# Altium integrated library Actel Fusion.IntLib: 336 symbols (part 65 of 72)
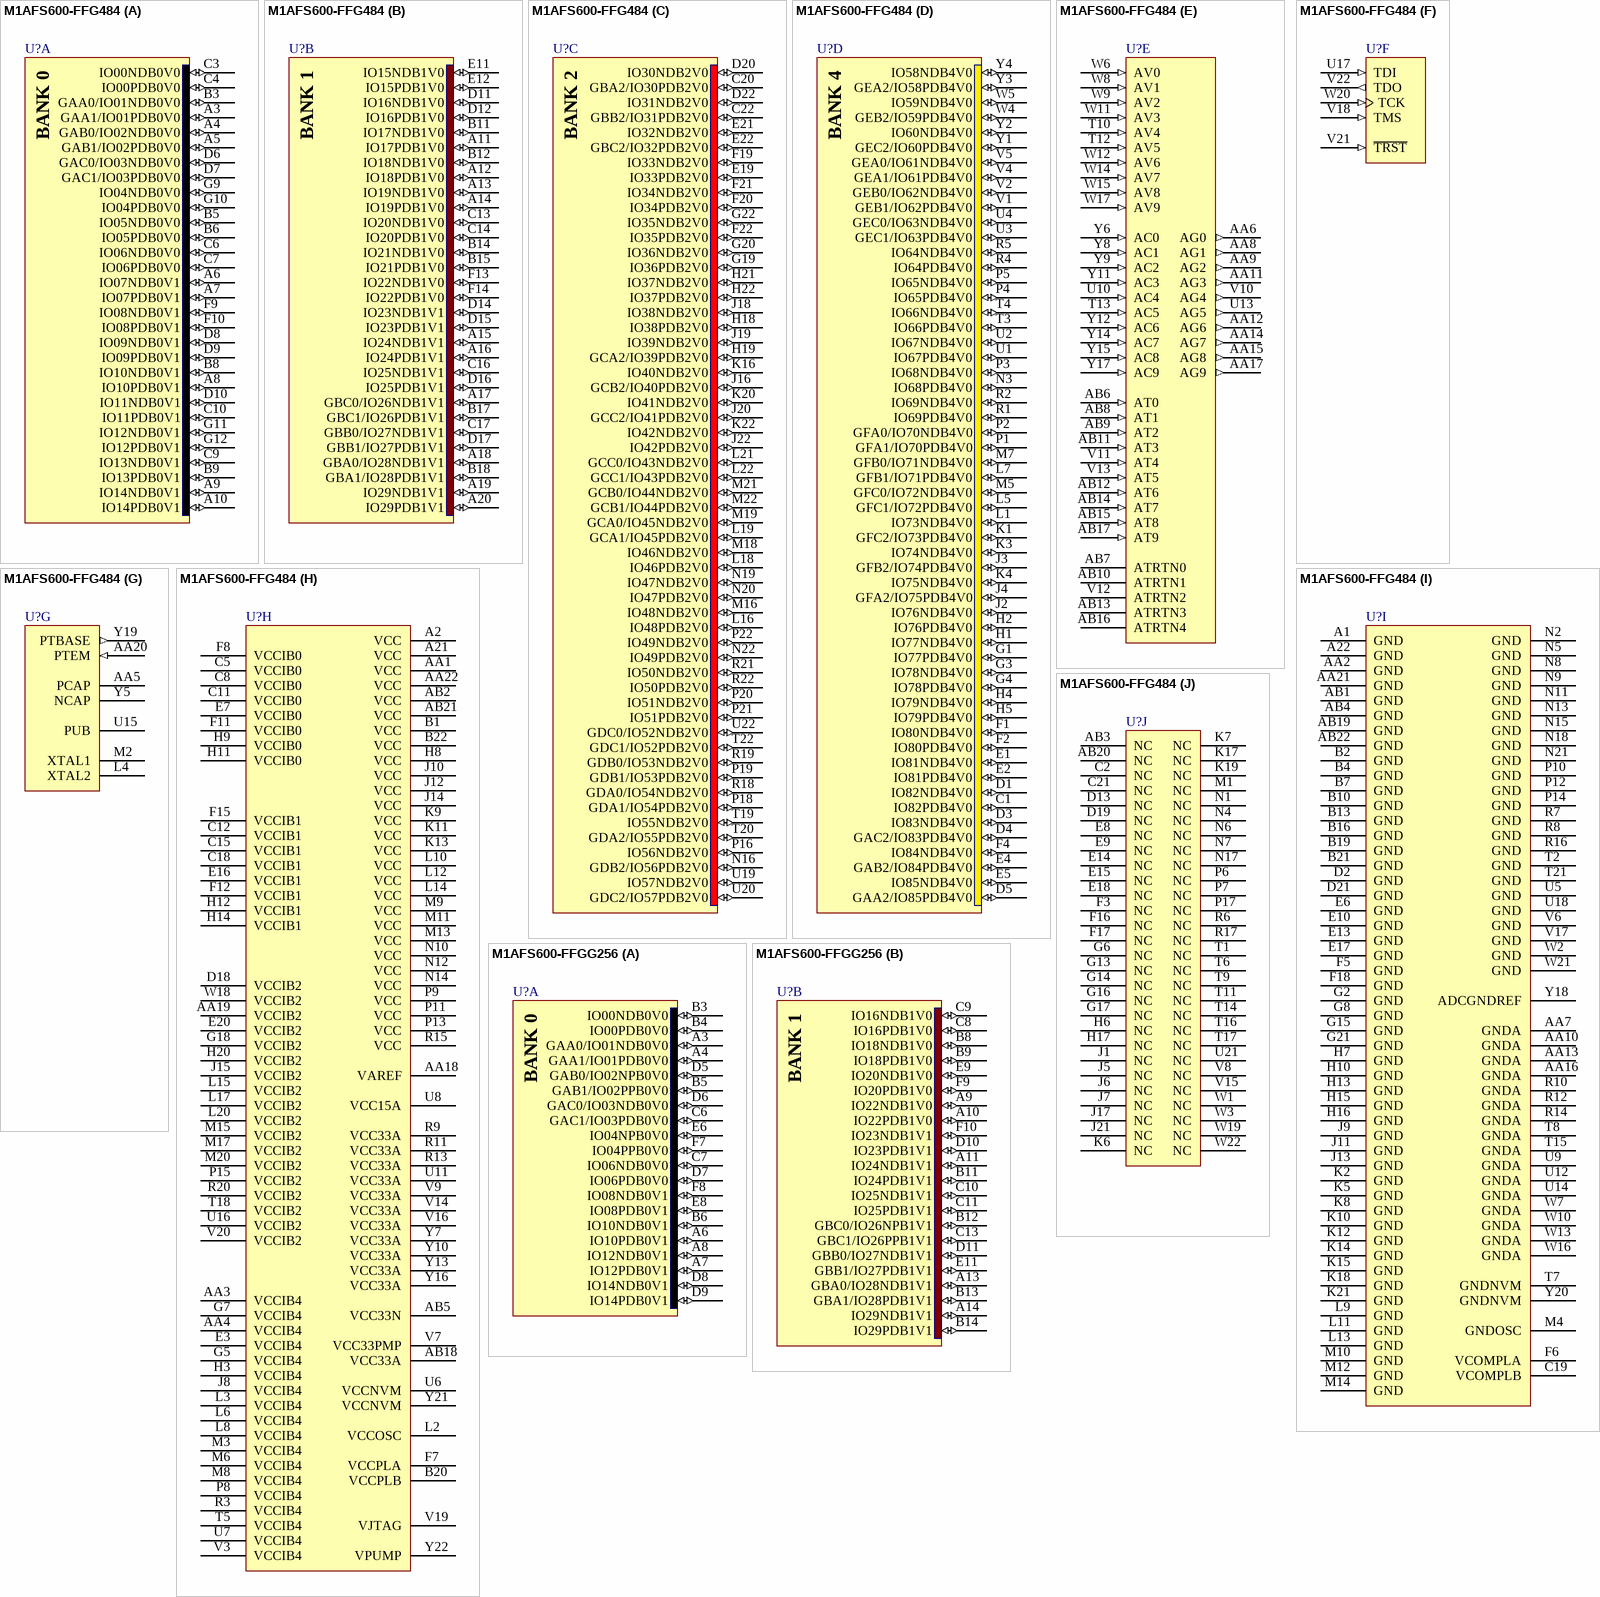
[diagram p332: symbols M1AFS600-FFG484 to M1AFS600-FFGG256]

## M1AFS600-FFG484
designator U?
ARM-Enabled 3.3V Fusion Mixed Signal Flash FPGA, 600,000 System Gates, 484-Pin FBGA, Commercial Grade; Published: 17-Aug-2007; LatestRevisionDate: 14-Dec-2007; LatestRevisionNote: Pin AB18 renamed to "VCC33A".; DatasheetVersion: ver1.7, Oct-2008; PackageVersion: v11.0, Feb-2009; PackageReference: FG484; Publisher: Altium Limited; PackageDescription: 484-Ball Fine Pitch Plastic Ball Grid Array (FG484) - Fully Populated; Code_JEDEC: MS-034-AAJ-1; Code_IPC: BGA100P22X22-484; ComponentLink1Description: Manufacturer Link; ComponentLink1URL: http://www.actel.com/products/fusion/; ComponentLink2Description: Datasheet; ComponentLink2URL: http://www.actel.com/documents/Fusion_DS.pdf; ComponentLink3Description: Packaging Specification; ComponentLink3URL: http://www.actel.com/documents/PckgMechDrwngs.pdf
footprint FG484 (BGA, 484-Leads, Body 23x23mm, Pitch 1mm)
3D model M1AFS600-FG484 (484-Ball Fine Pitch Plastic Ball Grid Array (FG484) - Fully Populated)
signal-integrity model M7AFS600_FG484 (Fusion)
part A pins: A3 GAA1/IO01PDB0V0 (io), A4 GAB0/IO02NDB0V0 (io), A5 GAB1/IO02PDB0V0 (io), A6 IO07NDB0V1 (io), A7 IO07PDB0V1 (io), A8 IO10PDB0V1 (io), A9 IO14NDB0V1 (io), A10 IO14PDB0V1 (io), B3 GAA0/IO01NDB0V0 (io), B5 IO05NDB0V0 (io), B6 IO05PDB0V0 (io), B8 IO10NDB0V1 (io), B9 IO13PDB0V1 (io), C3 IO00NDB0V0 (io), C4 IO00PDB0V0 (io), C6 IO06NDB0V0 (io), C7 IO06PDB0V0 (io), C9 IO13NDB0V1 (io), C10 IO11PDB0V1 (io), D6 GAC0/IO03NDB0V0 (io), D7 GAC1/IO03PDB0V0 (io), D8 IO09NDB0V1 (io), D9 IO09PDB0V1 (io), D10 IO11NDB0V1 (io), F9 IO08NDB0V1 (io), F10 IO08PDB0V1 (io), G9 IO04NDB0V0 (io), G10 IO04PDB0V0 (io), G11 IO12NDB0V1 (io), G12 IO12PDB0V1 (io)
part B pins: A11 IO17PDB1V0 (io), A12 IO18PDB1V0 (io), A13 IO19NDB1V0 (io), A14 IO19PDB1V0 (io), A15 IO24NDB1V1 (io), A16 IO24PDB1V1 (io), A17 GBC0/IO26NDB1V1 (io), A18 GBA0/IO28NDB1V1 (io), A19 IO29NDB1V1 (io), A20 IO29PDB1V1 (io), B11 IO17NDB1V0 (io), B12 IO18NDB1V0 (io), B14 IO21NDB1V0 (io), B15 IO21PDB1V0 (io), B17 GBC1/IO26PDB1V1 (io), B18 GBA1/IO28PDB1V1 (io), C13 IO20NDB1V0 (io), C14 IO20PDB1V0 (io), C16 IO25NDB1V1 (io), C17 GBB0/IO27NDB1V1 (io), D11 IO16NDB1V0 (io), D12 IO16PDB1V0 (io), D14 IO23NDB1V1 (io), D15 IO23PDB1V1 (io), D16 IO25PDB1V1 (io), D17 GBB1/IO27PDB1V1 (io), E11 IO15NDB1V0 (io), E12 IO15PDB1V0 (io), F13 IO22NDB1V0 (io), F14 IO22PDB1V0 (io)
part C pins: C20 GBA2/IO30PDB2V0 (io), C22 GBB2/IO31PDB2V0 (io), D20 IO30NDB2V0 (io), D22 IO31NDB2V0 (io), E19 IO33PDB2V0 (io), E21 IO32NDB2V0 (io), E22 GBC2/IO32PDB2V0 (io), F19 IO33NDB2V0 (io), F20 IO34PDB2V0 (io), F21 IO34NDB2V0 (io), F22 IO35PDB2V0 (io), G19 IO36PDB2V0 (io), G20 IO36NDB2V0 (io), G22 IO35NDB2V0 (io), H18 IO38PDB2V0 (io), H19 GCA2/IO39PDB2V0 (io), H21 IO37NDB2V0 (io), H22 IO37PDB2V0 (io), J16 GCB2/IO40PDB2V0 (io), J18 IO38NDB2V0 (io), J19 IO39NDB2V0 (io), J20 GCC2/IO41PDB2V0 (io), J22 IO42PDB2V0 (io), K16 IO40NDB2V0 (io), K20 IO41NDB2V0 (io), K22 IO42NDB2V0 (io), L16 IO48PDB2V0 (io), L18 IO46PDB2V0 (io), L19 GCA1/IO45PDB2V0 (io), L21 GCC0/IO43NDB2V0 (io), L22 GCC1/IO43PDB2V0 (io), M16 IO48NDB2V0 (io), M18 IO46NDB2V0 (io), M19 GCA0/IO45NDB2V0 (io), M21 GCB0/IO44NDB2V0 (io), M22 GCB1/IO44PDB2V0 (io), N16 GDB2/IO56PDB2V0 (io), N19 IO47NDB2V0 (io), N20 IO47PDB2V0 (io), N22 IO49PDB2V0 (io), P16 IO56NDB2V0 (io), P18 GDA1/IO54PDB2V0 (io), P19 GDB1/IO53PDB2V0 (io), P20 IO51NDB2V0 (io), P21 IO51PDB2V0 (io), P22 IO49NDB2V0 (io), R18 GDA0/IO54NDB2V0 (io), R19 GDB0/IO53NDB2V0 (io), R21 IO50NDB2V0 (io), R22 IO50PDB2V0 (io), T19 IO55NDB2V0 (io), T20 GDA2/IO55PDB2V0 (io), T22 GDC1/IO52PDB2V0 (io), U19 IO57NDB2V0 (io), U20 GDC2/IO57PDB2V0 (io), U22 GDC0/IO52NDB2V0 (io)
part D pins: C1 IO82PDB4V0 (io), D1 IO82NDB4V0 (io), D3 IO83NDB4V0 (io), D4 GAC2/IO83PDB4V0 (io), D5 GAA2/IO85PDB4V0 (io), E1 IO81NDB4V0 (io), E2 IO81PDB4V0 (io), E4 GAB2/IO84PDB4V0 (io), E5 IO85NDB4V0 (io), F1 IO80NDB4V0 (io), F2 IO80PDB4V0 (io), F4 IO84NDB4V0 (io), G1 IO77PDB4V0 (io), G3 IO78NDB4V0 (io), G4 IO78PDB4V0 (io), H1 IO77NDB4V0 (io), H2 IO76PDB4V0 (io), H4 IO79NDB4V0 (io), H5 IO79PDB4V0 (io), J2 IO76NDB4V0 (io), J3 GFB2/IO74PDB4V0 (io), J4 GFA2/IO75PDB4V0 (io), K1 GFC2/IO73PDB4V0 (io), K3 IO74NDB4V0 (io), K4 IO75NDB4V0 (io), L1 IO73NDB4V0 (io), L5 GFC1/IO72PDB4V0 (io), L7 GFB1/IO71PDB4V0 (io), M5 GFC0/IO72NDB4V0 (io), M7 GFB0/IO71NDB4V0 (io), N3 IO68PDB4V0 (io), P1 GFA1/IO70PDB4V0 (io), P2 GFA0/IO70NDB4V0 (io), P3 IO68NDB4V0 (io), P4 IO65PDB4V0 (io), P5 IO65NDB4V0 (io), R1 IO69PDB4V0 (io), R2 IO69NDB4V0 (io), R4 IO64PDB4V0 (io), R5 IO64NDB4V0 (io), T3 IO66PDB4V0 (io), T4 IO66NDB4V0 (io), U1 IO67PDB4V0 (io), U2 IO67NDB4V0 (io), U3 GEC1/IO63PDB4V0 (io), U4 GEC0/IO63NDB4V0 (io), V1 GEB1/IO62PDB4V0 (io), V2 GEB0/IO62NDB4V0 (io), V4 GEA1/IO61PDB4V0 (io), V5 GEA0/IO61NDB4V0 (io), W4 GEB2/IO59PDB4V0 (io), W5 IO59NDB4V0 (io), Y1 GEC2/IO60PDB4V0 (io), Y2 IO60NDB4V0 (io), Y3 GEA2/IO58PDB4V0 (io), Y4 IO58NDB4V0 (io)
part E pins: AA6 AG0 (out) "Analog gate driver pad 0.", AA8 AG1 (out) "Analog gate driver pad 1.", AA9 AG2 (out) "Analog gate driver pad 2.", AA11 AG3 (out) "Analog gate driver pad 3.", AA12 AG6 (out) "Analog gate driver pad 6.", AA14 AG7 (out) "Analog gate driver pad 7.", AA15 AG8 (out) "Analog gate driver pad 8.", AA17 AG9 (out) "Analog gate driver pad 9.", AB6 AT0 (in) "Analog temperature pad 0.", AB7 ATRTN0 "Temperature monitor return 0.", AB8 AT1 (in) "Analog temperature pad 1.", AB9 AT2 (in) "Analog temperature pad 2.", AB10 ATRTN1 "Temperature monitor return 1.", AB11 AT3 (in) "Analog temperature pad 3.", AB12 AT6 (in) "Analog temperature pad 6.", AB13 ATRTN3 "Temperature monitor return 3.", AB14 AT7 (in) "Analog temperature pad 7.", AB15 AT8 (in) "Analog temperature pad 8.", AB16 ATRTN4 "Temperature monitor return 4.", AB17 AT9 (in) "Analog temperature pad 9.", T10 AV4 (in) "Analog voltage pad 4.", T12 AV5 (in) "Analog voltage pad 5.", T13 AC5 (in) "Analog current pad 5.", U10 AC4 (in) "Analog current pad 4.", U13 AG5 (out) "Analog gate driver pad 5.", V10 AG4 (out) "Analog gate driver pad 4.", V11 AT4 (in) "Analog temperature pad 4.", V12 ATRTN2 "Temperature monitor return 2.", V13 AT5 (in) "Analog temperature pad 5.", W6 AV0 (in) "Analog voltage pad 0.", W8 AV1 (in) "Analog voltage pad 1.", W9 AV2 (in) "Analog voltage pad 2.", W11 AV3 (in) "Analog voltage pad 3.", W12 AV6 (in) "Analog voltage pad 6.", W14 AV7 (in) "Analog voltage pad 7.", W15 AV8 (in) "Analog voltage pad 8.", W17 AV9 (in) "Analog voltage pad 9.", Y6 AC0 (in) "Analog current pad 0.", Y8 AC1 (in) "Analog current pad 1.", Y9 AC2 (in) "Analog current pad 2.", Y11 AC3 (in) "Analog current pad 3.", Y12 AC6 (in) "Analog current pad 6.", Y14 AC7 (in) "Analog current pad 7.", Y15 AC8 (in) "Analog current pad 8.", Y17 AC9 (in) "Analog current pad 9."
part F pins: U17 TDI (in), V18 TMS (in), V21 ~{TRST} (in), V22 TDO (out), W20 TCK (in)
part G pins: AA5 PCAP "POSITIVE CAPACITOR - where the positive terminal of the charge pump capacitor is connected.", AA20 PTEM (in) "PASS TRANSISTOR EMITTER - The feedback input of the voltage regulator.", L4 XTAL2 "Input to crystal oscillator - If using external RC network or clock input, XTAL1 should be used and XTAL2 left unconnected.", M2 XTAL1 "Input to crystal oscillator - If using external RC network or clock input, XTAL1 should be used and XTAL2 left unconnected.", U15 PUB "Power up bar - for the external momentary switch which turns on the 1.5V regulator.", Y5 NCAP "NEGATIVE CAPACITOR - where the negative terminal of the charge pump capacitor is connected.", Y19 PTBASE (out) "PASS TRANSISTOR BASE - The control signal of the voltage regulator."
part H pins: A2 VCC (power), A21 VCC (power), AA1 VCC (power), AA3 VCCIB4 (power) "Quiet supply voltage to the input buffers of bank 4.", AA4 VCCIB4 (power), AA18 VAREF (power) "Analog reference voltage to be used by analog to digital converter.", AA19 VCCIB2 (power), AA22 VCC (power), AB2 VCC (power), AB5 VCC33N (power) "-3.3V output from the voltage converter. A 2.2µF capacitor must be connected from this pin to ground.", AB18 VCC33A (power) "Analog power pin for the analog power supply low pass filter. An external 1µF capacitor should be connected between this pin and ground.", AB21 VCC (power), B1 VCC (power), B20 VCCPLB (power), B22 VCC (power), C5 VCCIB0 (power), C8 VCCIB0 (power), C11 VCCIB0 (power), C12 VCCIB1 (power), C15 VCCIB1 (power), C18 VCCIB1 (power), D18 VCCIB2 (power) "Quiet supply voltage to the input buffers of bank 2.", E3 VCCIB4 (power), E7 VCCIB0 (power), E16 VCCIB1 (power), E20 VCCIB2 (power), F7 VCCPLA (power), F8 VCCIB0 (power) "Quiet supply voltage to the input buffers of bank 0.", F11 VCCIB0 (power), F12 VCCIB1 (power), F15 VCCIB1 (power) "Quiet supply voltage to the input buffers of bank 1.", G5 VCCIB4 (power), G7 VCCIB4 (power) "Quiet supply voltage to the input buffers of bank 4.", G18 VCCIB2 (power), H3 VCCIB4 (power), H8 VCC (power), H9 VCCIB0 (power), H11 VCCIB0 (power), H12 VCCIB1 (power), H14 VCCIB1 (power), H20 VCCIB2 (power), J8 VCCIB4 (power), J10 VCC (power), J12 VCC (power), J14 VCC (power), J15 VCCIB2 (power), K9 VCC (power), K11 VCC (power), K13 VCC (power), L2 VCCOSC (power), L3 VCCIB4 (power), L6 VCCIB4 (power), L8 VCCIB4 (power), L10 VCC (power), L12 VCC (power), L14 VCC (power), L15 VCCIB2 (power), L17 VCCIB2 (power), L20 VCCIB2 (power), M3 VCCIB4 (power), M6 VCCIB4 (power), M8 VCCIB4 (power), M9 VCC (power), M11 VCC (power), M13 VCC (power), M15 VCCIB2 (power), M17 VCCIB2 (power), M20 VCCIB2 (power), N10 VCC (power), N12 VCC (power), N14 VCC (power), P8 VCCIB4 (power), P9 VCC (power), P11 VCC (power), P13 VCC (power), P15 VCCIB2 (power), R3 VCCIB4 (power), R9 VCC33A (power), R11 VCC33A (power), R13 VCC33A (power), R15 VCC (power), R20 VCCIB2 (power), T5 VCCIB4 (power), T18 VCCIB2 (power), U6 VCCNVM (power) "1.5V power supply used by the Fusion device's Flash memory block module(s).", U7 VCCIB4 (power), U8 VCC15A (power), U11 VCC33A (power), U16 VCCIB2 (power), V3 VCCIB4 (power), V7 VCC33PMP (power) "3.3V clean analog power supply input for use by the analog charge pump.", V9 VCC33A (power), V14 VCC33A (power), V16 VCC33A (power), V19 VJTAG (power), V20 VCCIB2 (power), W18 VCCIB2 (power) "Quiet supply voltage to the input buffers of bank 2.", Y7 VCC33A (power), Y10 VCC33A (power), Y13 VCC33A (power), Y16 VCC33A (power), Y21 VCCNVM (power) "1.5V power supply used by the Fusion device's Flash memory block module(s).", Y22 VPUMP (power)
part I pins: A1 GND (power), A22 GND (power), AA2 GND (power), AA7 GNDA (power), AA10 GNDA (power), AA13 GNDA (power), AA16 GNDA (power), AA21 GND (power), AB1 GND (power), AB4 GND (power), AB19 GND (power), AB22 GND (power), B2 GND (power), B4 GND (power), B7 GND (power), B10 GND (power), B13 GND (power), B16 GND (power), B19 GND (power), B21 GND (power), C19 VCOMPLB (power), D2 GND (power), D21 GND (power), E6 GND (power), E10 GND (power), E13 GND (power), E17 GND (power), F5 GND (power), F6 VCOMPLA (power), F18 GND (power), G2 GND (power), G8 GND (power), G15 GND (power), G21 GND (power), H7 GND (power), H10 GND (power), H13 GND (power), H15 GND (power), H16 GND (power), J9 GND (power), J11 GND (power), J13 GND (power), K2 GND (power), K5 GND (power), K8 GND (power), K10 GND (power), K12 GND (power), K14 GND (power), K15 GND (power), K18 GND (power), K21 GND (power), L9 GND (power), L11 GND (power), L13 GND (power), M4 GNDOSC (power) "Oscillator ground.", M10 GND (power), M12 GND (power), M14 GND (power), N2 GND (power), N5 GND (power), N8 GND (power), N9 GND (power), N11 GND (power), N13 GND (power), N15 GND (power), N18 GND (power), N21 GND (power), P10 GND (power), P12 GND (power), P14 GND (power), R7 GND (power), R8 GND (power), R10 GNDA (power), R12 GNDA (power), R14 GNDA (power), R16 GND (power), T2 GND (power), T7 GNDNVM (power) "Flash memory ground.", T8 GNDA (power), T15 GNDA (power), T21 GND (power), U5 GND (power), U9 GNDA (power), U12 GNDA (power), U14 GNDA (power), U18 GND (power), V6 GND (power), V17 GND (power), W2 GND (power), W7 GNDA (power), W10 GNDA (power), W13 GNDA (power), W16 GNDA (power), W21 GND (power), Y18 ADCGNDREF (power) "Analog ground reference used by the ADC.", Y20 GNDNVM (power) "Flash memory ground."
part J pins: AB3 NC, AB20 NC, C2 NC, C21 NC, D13 NC, D19 NC, E8 NC, E9 NC, E14 NC, E15 NC, E18 NC, F3 NC, F16 NC, F17 NC, G6 NC, G13 NC, G14 NC, G16 NC, G17 NC, H6 NC, H17 NC, J1 NC, J5 NC, J6 NC, J7 NC, J17 NC, J21 NC, K6 NC, K7 NC, K17 NC, K19 NC, M1 NC, N1 NC, N4 NC, N6 NC, N7 NC, N17 NC, P6 NC, P7 NC, P17 NC, R6 NC, R17 NC, T1 NC, T6 NC, T9 NC, T11 NC, T14 NC, T16 NC, T17 NC, U21 NC, V8 NC, V15 NC, W1 NC, W3 NC, W19 NC, W22 NC
part A text: BANK 0
part B text: BANK 1
part C text: BANK 2
part D text: BANK 4

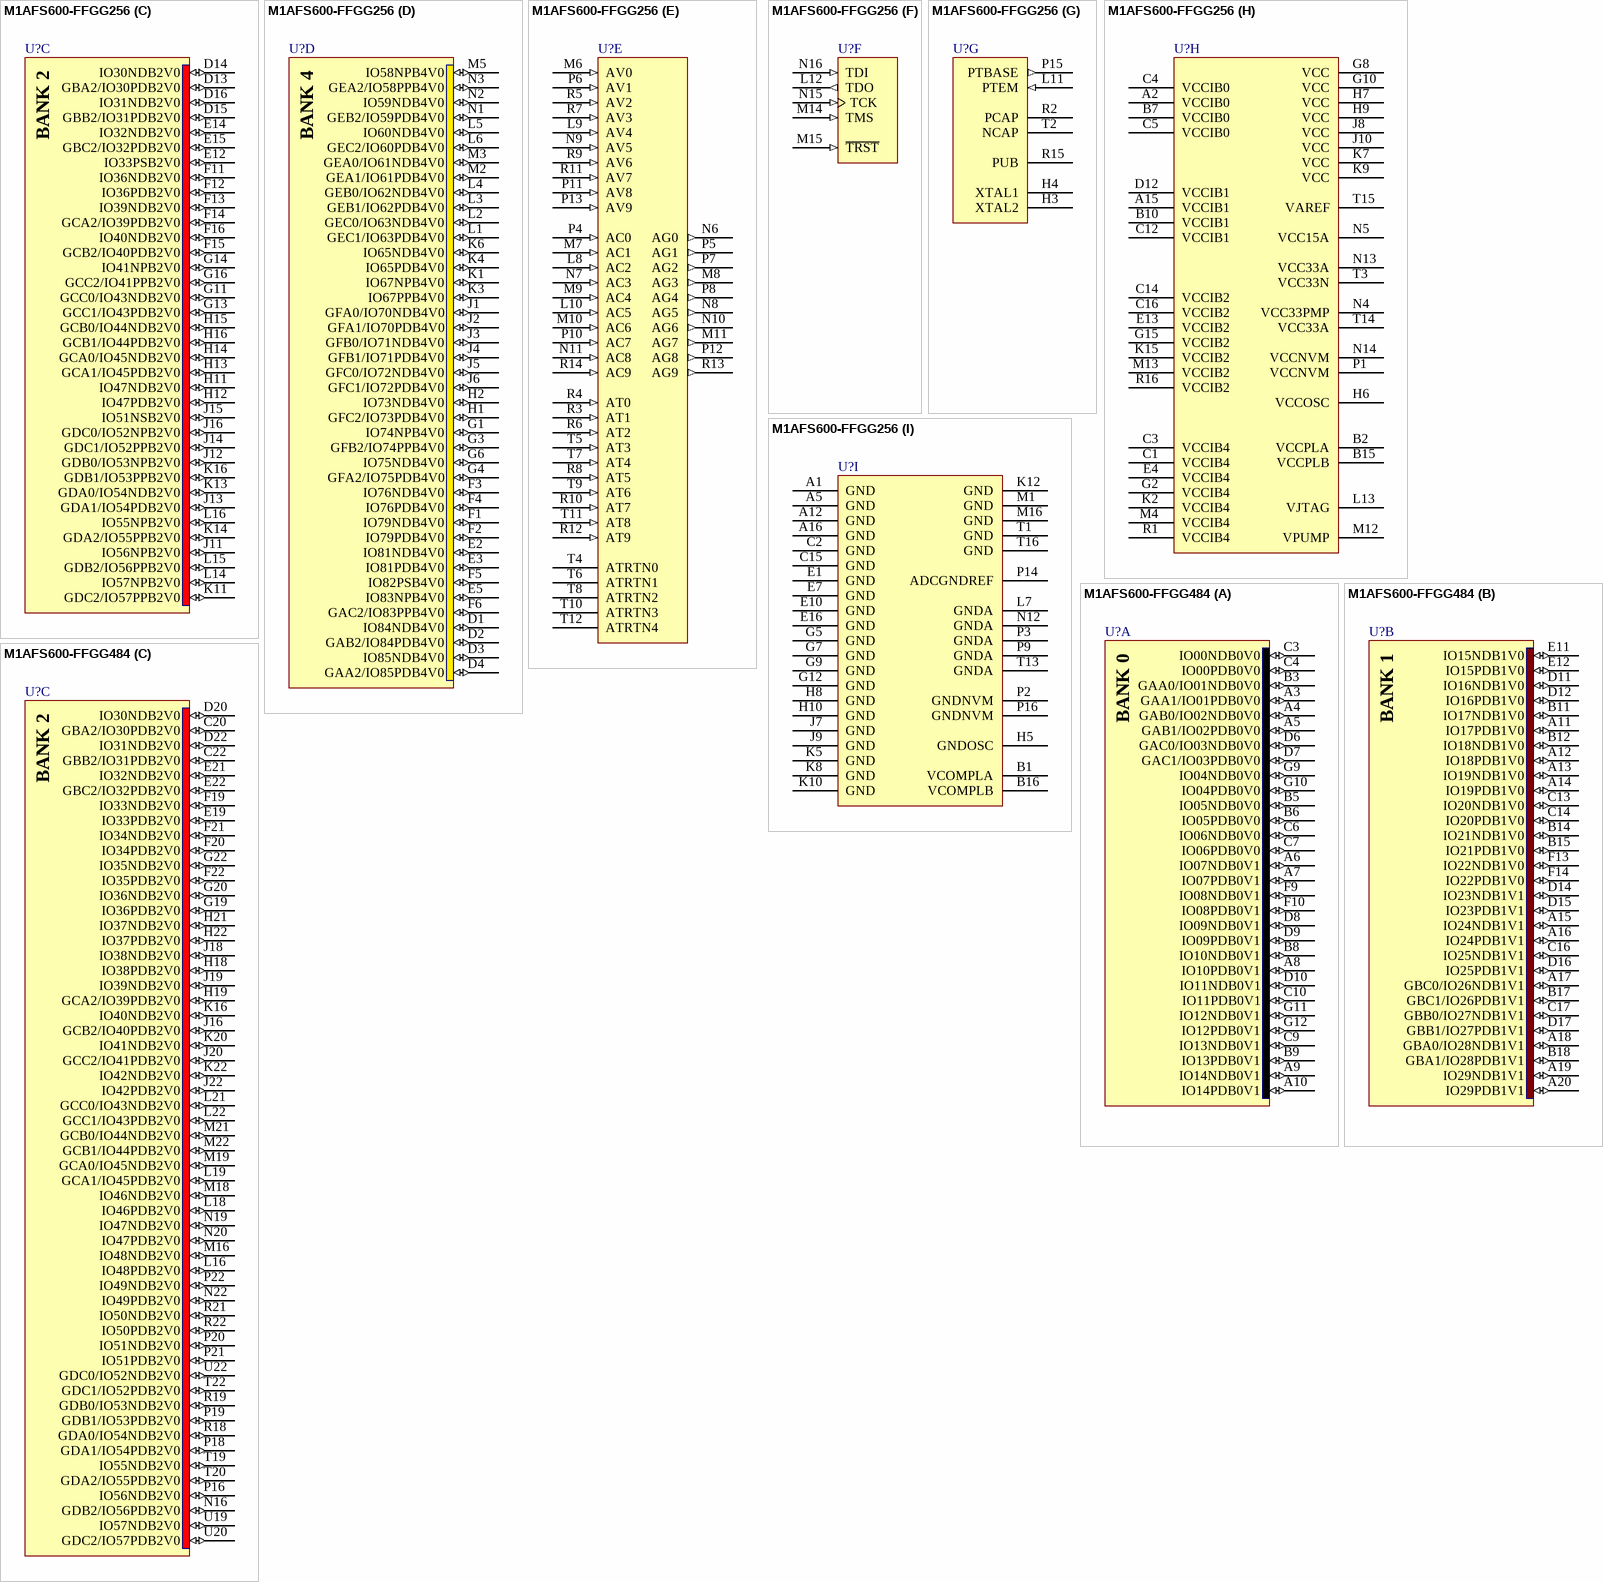
[diagram p193: symbols M1AFS600-FFGG256 to M1AFS600-FFGG484]

## M1AFS600-FFGG256
designator U?
ARM-Enabled 3.3V Fusion Mixed Signal Flash FPGA, 600,000 System Gates, 256-Pin FBGA, Commercial Grade, Pb-Free; Published: 17-Aug-2007; LatestRevisionDate: 14-Dec-2007; LatestRevisionNote: Pin T14 renamed to "VCC33A".; DatasheetVersion: ver1.7, Oct-2008; PackageVersion: v11.0, Feb-2009; PackageReference: FG256; Publisher: Altium Limited; PackageDescription: 256-Ball Fine Pitch Plastic Ball Grid Array (FG256); Code_JEDEC: MO-192-DAF-1; ComponentLink1Description: Manufacturer Link; ComponentLink1URL: http://www.actel.com/products/fusion/; ComponentLink2Description: Datasheet; ComponentLink2URL: http://www.actel.com/documents/Fusion_DS.pdf; ComponentLink3Description: Packaging Specification; ComponentLink3URL: http://www.actel.com/documents/PckgMechDrwngs.pdf
footprint FG256 (BGA, 256-Leads, Body 17x17mm, Pitch 1mm)
3D model M1AFS600-FG256 (256-Ball Fine Pitch Plastic Ball Grid Array (FG256))
signal-integrity model M7AFS600_FG256 (Fusion)
part A pins: A3 GAA0/IO01NDB0V0 (io), A4 GAA1/IO01PDB0V0 (io), A6 IO10PDB0V1 (io), A7 IO12PDB0V1 (io), A8 IO12NDB0V1 (io), B3 IO00NDB0V0 (io), B4 IO00PDB0V0 (io), B5 GAB1/IO02PPB0V0 (io), B6 IO10NDB0V1 (io), C6 GAC1/IO03PDB0V0 (io), C7 IO06NDB0V0 (io), D5 GAB0/IO02NPB0V0 (io), D6 GAC0/IO03NDB0V0 (io), D7 IO06PDB0V0 (io), D8 IO14NDB0V1 (io), D9 IO14PDB0V1 (io), E6 IO04NPB0V0 (io), E8 IO08PDB0V1 (io), F7 IO04PPB0V0 (io), F8 IO08NDB0V1 (io)
part B pins: A9 IO22NDB1V0 (io), A10 IO22PDB1V0 (io), A11 IO24NDB1V1 (io), A13 GBA0/IO28NDB1V1 (io), A14 IO29NDB1V1 (io), B8 IO18NDB1V0 (io), B9 IO18PDB1V0 (io), B11 IO24PDB1V1 (io), B12 GBC0/IO26NPB1V1 (io), B13 GBA1/IO28PDB1V1 (io), B14 IO29PDB1V1 (io), C8 IO16PDB1V0 (io), C9 IO16NDB1V0 (io), C10 IO25NDB1V1 (io), C11 IO25PDB1V1 (io), C13 GBC1/IO26PPB1V1 (io), D10 IO23PDB1V1 (io), D11 GBB0/IO27NDB1V1 (io), E9 IO20NDB1V0 (io), E11 GBB1/IO27PDB1V1 (io), F9 IO20PDB1V0 (io), F10 IO23NDB1V1 (io)
part C pins: D13 GBA2/IO30PDB2V0 (io), D14 IO30NDB2V0 (io), D15 GBB2/IO31PDB2V0 (io), D16 IO31NDB2V0 (io), E12 IO33PSB2V0 (io), E14 IO32NDB2V0 (io), E15 GBC2/IO32PDB2V0 (io), F11 IO36NDB2V0 (io), F12 IO36PDB2V0 (io), F13 IO39NDB2V0 (io), F14 GCA2/IO39PDB2V0 (io), F15 GCB2/IO40PDB2V0 (io), F16 IO40NDB2V0 (io), G11 GCC0/IO43NDB2V0 (io), G13 GCC1/IO43PDB2V0 (io), G14 IO41NPB2V0 (io), G16 GCC2/IO41PPB2V0 (io), H11 IO47NDB2V0 (io), H12 IO47PDB2V0 (io), H13 GCA1/IO45PDB2V0 (io), H14 GCA0/IO45NDB2V0 (io), H15 GCB0/IO44NDB2V0 (io), H16 GCB1/IO44PDB2V0 (io), J11 IO56NPB2V0 (io), J12 GDB0/IO53NPB2V0 (io), J13 GDA1/IO54PDB2V0 (io), J14 GDC1/IO52PPB2V0 (io), J15 IO51NSB2V0 (io), J16 GDC0/IO52NPB2V0 (io), K11 GDC2/IO57PPB2V0 (io), K13 GDA0/IO54NDB2V0 (io), K14 GDA2/IO55PPB2V0 (io), K16 GDB1/IO53PPB2V0 (io), L14 IO57NPB2V0 (io), L15 GDB2/IO56PPB2V0 (io), L16 IO55NPB2V0 (io)
part D pins: D1 IO84NDB4V0 (io), D2 GAB2/IO84PDB4V0 (io), D3 IO85NDB4V0 (io), D4 GAA2/IO85PDB4V0 (io), E2 IO81NDB4V0 (io), E3 IO81PDB4V0 (io), E5 IO83NPB4V0 (io), F1 IO79NDB4V0 (io), F2 IO79PDB4V0 (io), F3 IO76NDB4V0 (io), F4 IO76PDB4V0 (io), F5 IO82PSB4V0 (io), F6 GAC2/IO83PPB4V0 (io), G1 IO74NPB4V0 (io), G3 GFB2/IO74PPB4V0 (io), G4 GFA2/IO75PDB4V0 (io), G6 IO75NDB4V0 (io), H1 GFC2/IO73PDB4V0 (io), H2 IO73NDB4V0 (io), J1 GFA0/IO70NDB4V0 (io), J2 GFA1/IO70PDB4V0 (io), J3 GFB0/IO71NDB4V0 (io), J4 GFB1/IO71PDB4V0 (io), J5 GFC0/IO72NDB4V0 (io), J6 GFC1/IO72PDB4V0 (io), K1 IO67NPB4V0 (io), K3 IO67PPB4V0 (io), K4 IO65PDB4V0 (io), K6 IO65NDB4V0 (io), L1 GEC1/IO63PDB4V0 (io), L2 GEC0/IO63NDB4V0 (io), L3 GEB1/IO62PDB4V0 (io), L4 GEB0/IO62NDB4V0 (io), L5 IO60NDB4V0 (io), L6 GEC2/IO60PDB4V0 (io), M2 GEA1/IO61PDB4V0 (io), M3 GEA0/IO61NDB4V0 (io), M5 IO58NPB4V0 (io), N1 GEB2/IO59PDB4V0 (io), N2 IO59NDB4V0 (io), N3 GEA2/IO58PPB4V0 (io)
part E pins: L8 AC2 (in) "Analog current pad 2.", L9 AV4 (in) "Analog voltage pad 4.", L10 AC5 (in) "Analog current pad 5.", M6 AV0 (in) "Analog voltage pad 0.", M7 AC1 (in) "Analog current pad 1.", M8 AG3 (out) "Analog gate driver pad 3.", M9 AC4 (in) "Analog current pad 4.", M10 AC6 (in) "Analog current pad 6.", M11 AG7 (out) "Analog gate driver pad 7.", N6 AG0 (out) "Analog gate driver pad 0.", N7 AC3 (in) "Analog current pad 3.", N8 AG5 (out) "Analog gate driver pad 5.", N9 AV5 (in) "Analog voltage pad 5.", N10 AG6 (out) "Analog gate driver pad 6.", N11 AC8 (in) "Analog current pad 8.", P4 AC0 (in) "Analog current pad 0.", P5 AG1 (out) "Analog gate driver pad 1.", P6 AV1 (in) "Analog voltage pad 1.", P7 AG2 (out) "Analog gate driver pad 2.", P8 AG4 (out) "Analog gate driver pad 4.", P10 AC7 (in) "Analog current pad 7.", P11 AV8 (in) "Analog voltage pad 8.", P12 AG8 (out) "Analog gate driver pad 8.", P13 AV9 (in) "Analog voltage pad 9.", R3 AT1 (in) "Analog temperature pad 1.", R4 AT0 (in) "Analog temperature pad 0.", R5 AV2 (in) "Analog voltage pad 2.", R6 AT2 (in) "Analog temperature pad 2.", R7 AV3 (in) "Analog voltage pad 3.", R8 AT5 (in) "Analog temperature pad 5.", R9 AV6 (in) "Analog voltage pad 6.", R10 AT7 (in) "Analog temperature pad 7.", R11 AV7 (in) "Analog voltage pad 7.", R12 AT9 (in) "Analog temperature pad 9.", R13 AG9 (out) "Analog gate driver pad 9.", R14 AC9 (in) "Analog current pad 9.", T4 ATRTN0 "Temperature monitor return 0.", T5 AT3 (in) "Analog temperature pad 3.", T6 ATRTN1 "Temperature monitor return 1.", T7 AT4 (in) "Analog temperature pad 4.", T8 ATRTN2 "Temperature monitor return 2.", T9 AT6 (in) "Analog temperature pad 6.", T10 ATRTN3 "Temperature monitor return 3.", T11 AT8 (in) "Analog temperature pad 8.", T12 ATRTN4 "Temperature monitor return 4."
part F pins: L12 TDO (out), M14 TMS (in), M15 ~{TRST} (in), N15 TCK (in), N16 TDI (in)
part G pins: H3 XTAL2 "Input to crystal oscillator - If using external RC network or clock input, XTAL1 should be used and XTAL2 left unconnected.", H4 XTAL1 "Input to crystal oscillator - If using external RC network or clock input, XTAL1 should be used and XTAL2 left unconnected.", L11 PTEM (in) "PASS TRANSISTOR EMITTER - The feedback input of the voltage regulator.", P15 PTBASE (out) "PASS TRANSISTOR BASE - The control signal of the voltage regulator.", R2 PCAP "POSITIVE CAPACITOR - where the positive terminal of the charge pump capacitor is connected.", R15 PUB "Power up bar - for the external momentary switch which turns on the 1.5V regulator.", T2 NCAP "NEGATIVE CAPACITOR - where the negative terminal of the charge pump capacitor is connected."
part H pins: A2 VCCIB0 (power), A15 VCCIB1 (power), B2 VCCPLA (power), B7 VCCIB0 (power), B10 VCCIB1 (power), B15 VCCPLB (power), C1 VCCIB4 (power), C3 VCCIB4 (power) "Quiet supply voltage to the input buffers of bank 4.", C4 VCCIB0 (power) "Quiet supply voltage to the input buffers of bank 0.", C5 VCCIB0 (power), C12 VCCIB1 (power), C14 VCCIB2 (power) "Quiet supply voltage to the input buffers of bank 2.", C16 VCCIB2 (power), D12 VCCIB1 (power) "Quiet supply voltage to the input buffers of bank 1.", E4 VCCIB4 (power), E13 VCCIB2 (power), G2 VCCIB4 (power), G8 VCC (power), G10 VCC (power), G15 VCCIB2 (power), H6 VCCOSC (power), H7 VCC (power), H9 VCC (power), J8 VCC (power), J10 VCC (power), K2 VCCIB4 (power), K7 VCC (power), K9 VCC (power), K15 VCCIB2 (power), L13 VJTAG (power), M4 VCCIB4 (power), M12 VPUMP (power), M13 VCCIB2 (power), N4 VCC33PMP (power) "3.3V clean analog power supply input for use by the analog charge pump.", N5 VCC15A (power), N13 VCC33A (power), N14 VCCNVM (power) "1.5V power supply used by the Fusion device's Flash memory block module(s).", P1 VCCNVM (power) "1.5V power supply used by the Fusion device's Flash memory block module(s).", R1 VCCIB4 (power), R16 VCCIB2 (power), T3 VCC33N (power) "-3.3V output from the voltage converter. A 2.2µF capacitor must be connected from this pin to ground.", T14 VCC33A (power) "Analog power pin for the analog power supply low pass filter. An external 1µF capacitor should be connected between this pin and ground.", T15 VAREF (power) "Analog reference voltage to be used by analog to digital converter."
part I pins: A1 GND (power), A5 GND (power), A12 GND (power), A16 GND (power), B1 VCOMPLA (power), B16 VCOMPLB (power), C2 GND (power), C15 GND (power), E1 GND (power), E7 GND (power), E10 GND (power), E16 GND (power), G5 GND (power), G7 GND (power), G9 GND (power), G12 GND (power), H5 GNDOSC (power) "Oscillator ground.", H8 GND (power), H10 GND (power), J7 GND (power), J9 GND (power), K5 GND (power), K8 GND (power), K10 GND (power), K12 GND (power), L7 GNDA (power), M1 GND (power), M16 GND (power), N12 GNDA (power), P2 GNDNVM (power) "Flash memory ground.", P3 GNDA (power), P9 GNDA (power), P14 ADCGNDREF (power) "Analog ground reference used by the ADC.", P16 GNDNVM (power) "Flash memory ground.", T1 GND (power), T13 GNDA (power), T16 GND (power)
part A text: BANK 0
part B text: BANK 1
part C text: BANK 2
part D text: BANK 4

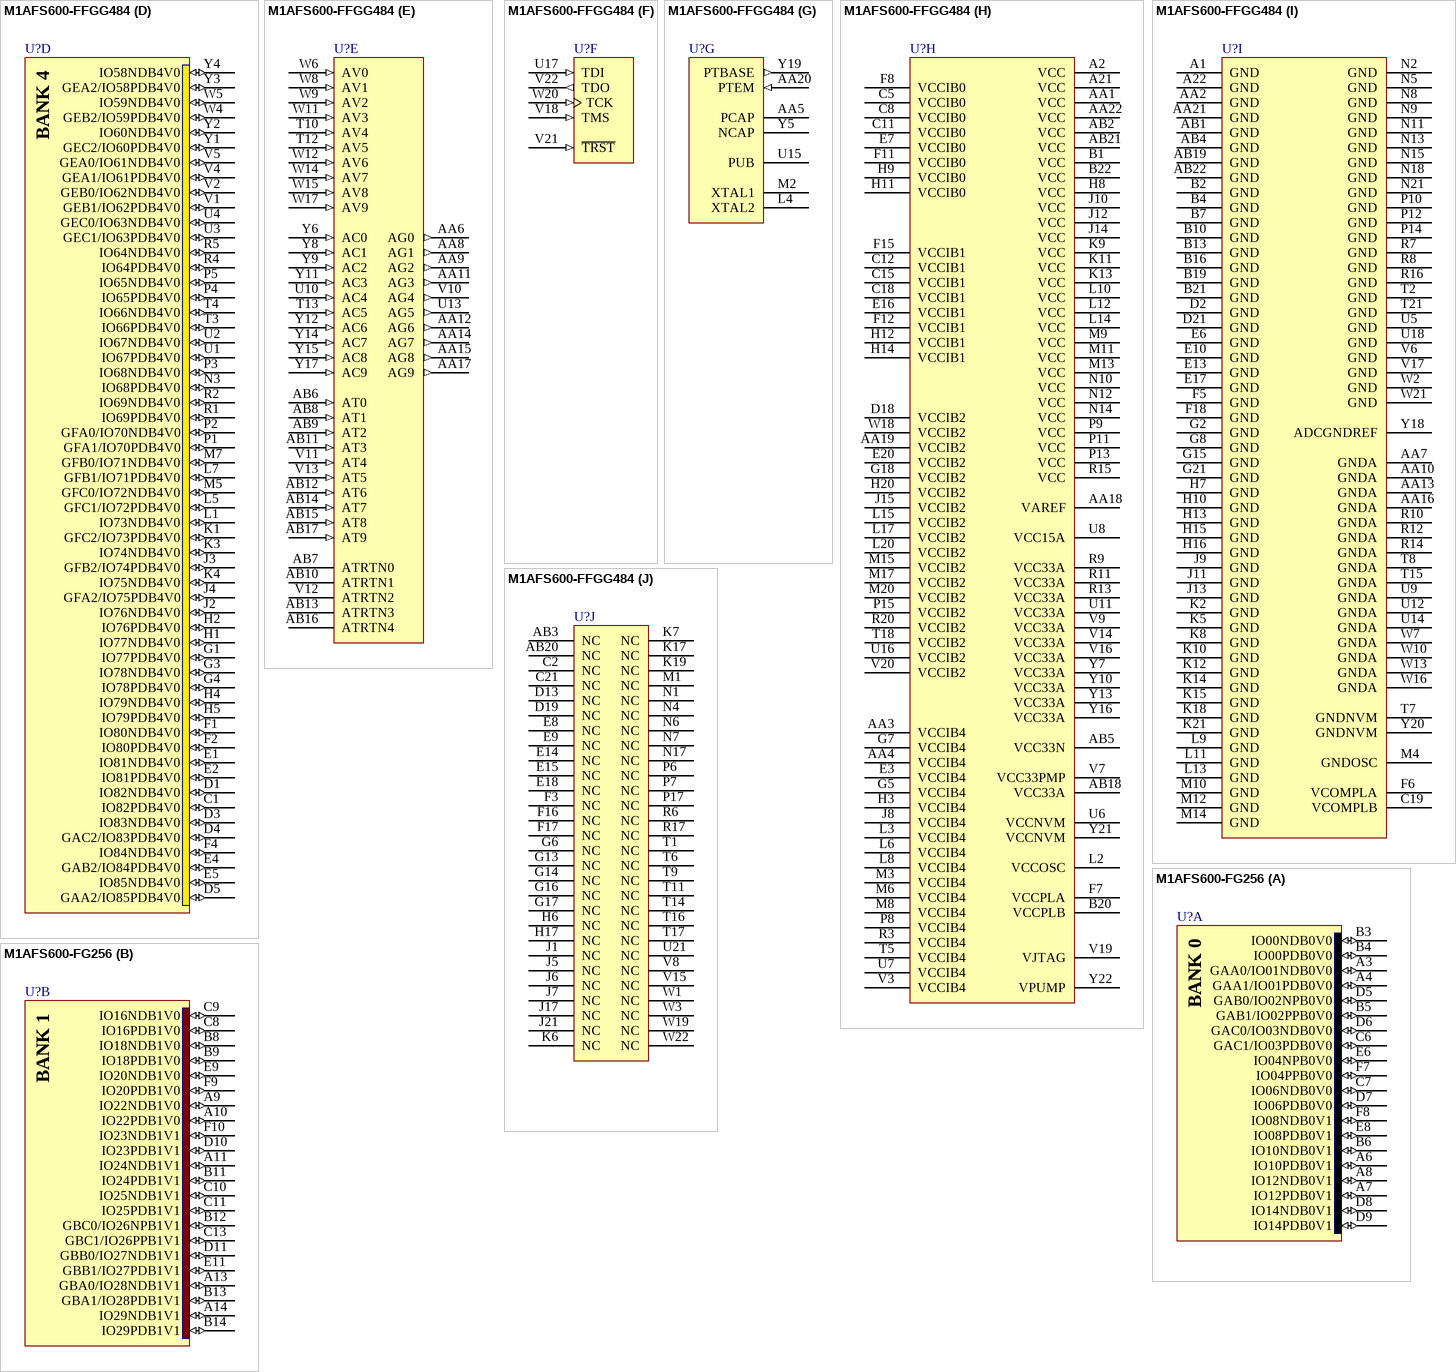
[diagram p194: symbols M1AFS600-FFGG484 to M1AFS600-FG256]

## M1AFS600-FFGG484
designator U?
ARM-Enabled 3.3V Fusion Mixed Signal Flash FPGA, 600,000 System Gates, 484-Pin FBGA, Commercial Grade, Pb-Free; Published: 17-Aug-2007; LatestRevisionDate: 14-Dec-2007; LatestRevisionNote: Pin AB18 renamed to "VCC33A".; DatasheetVersion: ver1.7, Oct-2008; PackageVersion: v11.0, Feb-2009; PackageReference: FG484; Publisher: Altium Limited; PackageDescription: 484-Ball Fine Pitch Plastic Ball Grid Array (FG484) - Fully Populated; Code_JEDEC: MS-034-AAJ-1; Code_IPC: BGA100P22X22-484; ComponentLink1Description: Manufacturer Link; ComponentLink1URL: http://www.actel.com/products/fusion/; ComponentLink2Description: Datasheet; ComponentLink2URL: http://www.actel.com/documents/Fusion_DS.pdf; ComponentLink3Description: Packaging Specification; ComponentLink3URL: http://www.actel.com/documents/PckgMechDrwngs.pdf
footprint FG484 (BGA, 484-Leads, Body 23x23mm, Pitch 1mm)
3D model M1AFS600-FG484 (484-Ball Fine Pitch Plastic Ball Grid Array (FG484) - Fully Populated)
signal-integrity model M7AFS600_FG484 (Fusion)
part A pins: A3 GAA1/IO01PDB0V0 (io), A4 GAB0/IO02NDB0V0 (io), A5 GAB1/IO02PDB0V0 (io), A6 IO07NDB0V1 (io), A7 IO07PDB0V1 (io), A8 IO10PDB0V1 (io), A9 IO14NDB0V1 (io), A10 IO14PDB0V1 (io), B3 GAA0/IO01NDB0V0 (io), B5 IO05NDB0V0 (io), B6 IO05PDB0V0 (io), B8 IO10NDB0V1 (io), B9 IO13PDB0V1 (io), C3 IO00NDB0V0 (io), C4 IO00PDB0V0 (io), C6 IO06NDB0V0 (io), C7 IO06PDB0V0 (io), C9 IO13NDB0V1 (io), C10 IO11PDB0V1 (io), D6 GAC0/IO03NDB0V0 (io), D7 GAC1/IO03PDB0V0 (io), D8 IO09NDB0V1 (io), D9 IO09PDB0V1 (io), D10 IO11NDB0V1 (io), F9 IO08NDB0V1 (io), F10 IO08PDB0V1 (io), G9 IO04NDB0V0 (io), G10 IO04PDB0V0 (io), G11 IO12NDB0V1 (io), G12 IO12PDB0V1 (io)
part B pins: A11 IO17PDB1V0 (io), A12 IO18PDB1V0 (io), A13 IO19NDB1V0 (io), A14 IO19PDB1V0 (io), A15 IO24NDB1V1 (io), A16 IO24PDB1V1 (io), A17 GBC0/IO26NDB1V1 (io), A18 GBA0/IO28NDB1V1 (io), A19 IO29NDB1V1 (io), A20 IO29PDB1V1 (io), B11 IO17NDB1V0 (io), B12 IO18NDB1V0 (io), B14 IO21NDB1V0 (io), B15 IO21PDB1V0 (io), B17 GBC1/IO26PDB1V1 (io), B18 GBA1/IO28PDB1V1 (io), C13 IO20NDB1V0 (io), C14 IO20PDB1V0 (io), C16 IO25NDB1V1 (io), C17 GBB0/IO27NDB1V1 (io), D11 IO16NDB1V0 (io), D12 IO16PDB1V0 (io), D14 IO23NDB1V1 (io), D15 IO23PDB1V1 (io), D16 IO25PDB1V1 (io), D17 GBB1/IO27PDB1V1 (io), E11 IO15NDB1V0 (io), E12 IO15PDB1V0 (io), F13 IO22NDB1V0 (io), F14 IO22PDB1V0 (io)
part C pins: C20 GBA2/IO30PDB2V0 (io), C22 GBB2/IO31PDB2V0 (io), D20 IO30NDB2V0 (io), D22 IO31NDB2V0 (io), E19 IO33PDB2V0 (io), E21 IO32NDB2V0 (io), E22 GBC2/IO32PDB2V0 (io), F19 IO33NDB2V0 (io), F20 IO34PDB2V0 (io), F21 IO34NDB2V0 (io), F22 IO35PDB2V0 (io), G19 IO36PDB2V0 (io), G20 IO36NDB2V0 (io), G22 IO35NDB2V0 (io), H18 IO38PDB2V0 (io), H19 GCA2/IO39PDB2V0 (io), H21 IO37NDB2V0 (io), H22 IO37PDB2V0 (io), J16 GCB2/IO40PDB2V0 (io), J18 IO38NDB2V0 (io), J19 IO39NDB2V0 (io), J20 GCC2/IO41PDB2V0 (io), J22 IO42PDB2V0 (io), K16 IO40NDB2V0 (io), K20 IO41NDB2V0 (io), K22 IO42NDB2V0 (io), L16 IO48PDB2V0 (io), L18 IO46PDB2V0 (io), L19 GCA1/IO45PDB2V0 (io), L21 GCC0/IO43NDB2V0 (io), L22 GCC1/IO43PDB2V0 (io), M16 IO48NDB2V0 (io), M18 IO46NDB2V0 (io), M19 GCA0/IO45NDB2V0 (io), M21 GCB0/IO44NDB2V0 (io), M22 GCB1/IO44PDB2V0 (io), N16 GDB2/IO56PDB2V0 (io), N19 IO47NDB2V0 (io), N20 IO47PDB2V0 (io), N22 IO49PDB2V0 (io), P16 IO56NDB2V0 (io), P18 GDA1/IO54PDB2V0 (io), P19 GDB1/IO53PDB2V0 (io), P20 IO51NDB2V0 (io), P21 IO51PDB2V0 (io), P22 IO49NDB2V0 (io), R18 GDA0/IO54NDB2V0 (io), R19 GDB0/IO53NDB2V0 (io), R21 IO50NDB2V0 (io), R22 IO50PDB2V0 (io), T19 IO55NDB2V0 (io), T20 GDA2/IO55PDB2V0 (io), T22 GDC1/IO52PDB2V0 (io), U19 IO57NDB2V0 (io), U20 GDC2/IO57PDB2V0 (io), U22 GDC0/IO52NDB2V0 (io)
part D pins: C1 IO82PDB4V0 (io), D1 IO82NDB4V0 (io), D3 IO83NDB4V0 (io), D4 GAC2/IO83PDB4V0 (io), D5 GAA2/IO85PDB4V0 (io), E1 IO81NDB4V0 (io), E2 IO81PDB4V0 (io), E4 GAB2/IO84PDB4V0 (io), E5 IO85NDB4V0 (io), F1 IO80NDB4V0 (io), F2 IO80PDB4V0 (io), F4 IO84NDB4V0 (io), G1 IO77PDB4V0 (io), G3 IO78NDB4V0 (io), G4 IO78PDB4V0 (io), H1 IO77NDB4V0 (io), H2 IO76PDB4V0 (io), H4 IO79NDB4V0 (io), H5 IO79PDB4V0 (io), J2 IO76NDB4V0 (io), J3 GFB2/IO74PDB4V0 (io), J4 GFA2/IO75PDB4V0 (io), K1 GFC2/IO73PDB4V0 (io), K3 IO74NDB4V0 (io), K4 IO75NDB4V0 (io), L1 IO73NDB4V0 (io), L5 GFC1/IO72PDB4V0 (io), L7 GFB1/IO71PDB4V0 (io), M5 GFC0/IO72NDB4V0 (io), M7 GFB0/IO71NDB4V0 (io), N3 IO68PDB4V0 (io), P1 GFA1/IO70PDB4V0 (io), P2 GFA0/IO70NDB4V0 (io), P3 IO68NDB4V0 (io), P4 IO65PDB4V0 (io), P5 IO65NDB4V0 (io), R1 IO69PDB4V0 (io), R2 IO69NDB4V0 (io), R4 IO64PDB4V0 (io), R5 IO64NDB4V0 (io), T3 IO66PDB4V0 (io), T4 IO66NDB4V0 (io), U1 IO67PDB4V0 (io), U2 IO67NDB4V0 (io), U3 GEC1/IO63PDB4V0 (io), U4 GEC0/IO63NDB4V0 (io), V1 GEB1/IO62PDB4V0 (io), V2 GEB0/IO62NDB4V0 (io), V4 GEA1/IO61PDB4V0 (io), V5 GEA0/IO61NDB4V0 (io), W4 GEB2/IO59PDB4V0 (io), W5 IO59NDB4V0 (io), Y1 GEC2/IO60PDB4V0 (io), Y2 IO60NDB4V0 (io), Y3 GEA2/IO58PDB4V0 (io), Y4 IO58NDB4V0 (io)
part E pins: AA6 AG0 (out) "Analog gate driver pad 0.", AA8 AG1 (out) "Analog gate driver pad 1.", AA9 AG2 (out) "Analog gate driver pad 2.", AA11 AG3 (out) "Analog gate driver pad 3.", AA12 AG6 (out) "Analog gate driver pad 6.", AA14 AG7 (out) "Analog gate driver pad 7.", AA15 AG8 (out) "Analog gate driver pad 8.", AA17 AG9 (out) "Analog gate driver pad 9.", AB6 AT0 (in) "Analog temperature pad 0.", AB7 ATRTN0 "Temperature monitor return 0.", AB8 AT1 (in) "Analog temperature pad 1.", AB9 AT2 (in) "Analog temperature pad 2.", AB10 ATRTN1 "Temperature monitor return 1.", AB11 AT3 (in) "Analog temperature pad 3.", AB12 AT6 (in) "Analog temperature pad 6.", AB13 ATRTN3 "Temperature monitor return 3.", AB14 AT7 (in) "Analog temperature pad 7.", AB15 AT8 (in) "Analog temperature pad 8.", AB16 ATRTN4 "Temperature monitor return 4.", AB17 AT9 (in) "Analog temperature pad 9.", T10 AV4 (in) "Analog voltage pad 4.", T12 AV5 (in) "Analog voltage pad 5.", T13 AC5 (in) "Analog current pad 5.", U10 AC4 (in) "Analog current pad 4.", U13 AG5 (out) "Analog gate driver pad 5.", V10 AG4 (out) "Analog gate driver pad 4.", V11 AT4 (in) "Analog temperature pad 4.", V12 ATRTN2 "Temperature monitor return 2.", V13 AT5 (in) "Analog temperature pad 5.", W6 AV0 (in) "Analog voltage pad 0.", W8 AV1 (in) "Analog voltage pad 1.", W9 AV2 (in) "Analog voltage pad 2.", W11 AV3 (in) "Analog voltage pad 3.", W12 AV6 (in) "Analog voltage pad 6.", W14 AV7 (in) "Analog voltage pad 7.", W15 AV8 (in) "Analog voltage pad 8.", W17 AV9 (in) "Analog voltage pad 9.", Y6 AC0 (in) "Analog current pad 0.", Y8 AC1 (in) "Analog current pad 1.", Y9 AC2 (in) "Analog current pad 2.", Y11 AC3 (in) "Analog current pad 3.", Y12 AC6 (in) "Analog current pad 6.", Y14 AC7 (in) "Analog current pad 7.", Y15 AC8 (in) "Analog current pad 8.", Y17 AC9 (in) "Analog current pad 9."
part F pins: U17 TDI (in), V18 TMS (in), V21 ~{TRST} (in), V22 TDO (out), W20 TCK (in)
part G pins: AA5 PCAP "POSITIVE CAPACITOR - where the positive terminal of the charge pump capacitor is connected.", AA20 PTEM (in) "PASS TRANSISTOR EMITTER - The feedback input of the voltage regulator.", L4 XTAL2 "Input to crystal oscillator - If using external RC network or clock input, XTAL1 should be used and XTAL2 left unconnected.", M2 XTAL1 "Input to crystal oscillator - If using external RC network or clock input, XTAL1 should be used and XTAL2 left unconnected.", U15 PUB "Power up bar - for the external momentary switch which turns on the 1.5V regulator.", Y5 NCAP "NEGATIVE CAPACITOR - where the negative terminal of the charge pump capacitor is connected.", Y19 PTBASE (out) "PASS TRANSISTOR BASE - The control signal of the voltage regulator."
part H pins: A2 VCC (power), A21 VCC (power), AA1 VCC (power), AA3 VCCIB4 (power) "Quiet supply voltage to the input buffers of bank 4.", AA4 VCCIB4 (power), AA18 VAREF (power) "Analog reference voltage to be used by analog to digital converter.", AA19 VCCIB2 (power), AA22 VCC (power), AB2 VCC (power), AB5 VCC33N (power) "-3.3V output from the voltage converter. A 2.2µF capacitor must be connected from this pin to ground.", AB18 VCC33A (power) "Analog power pin for the analog power supply low pass filter. An external 1µF capacitor should be connected between this pin and ground.", AB21 VCC (power), B1 VCC (power), B20 VCCPLB (power), B22 VCC (power), C5 VCCIB0 (power), C8 VCCIB0 (power), C11 VCCIB0 (power), C12 VCCIB1 (power), C15 VCCIB1 (power), C18 VCCIB1 (power), D18 VCCIB2 (power) "Quiet supply voltage to the input buffers of bank 2.", E3 VCCIB4 (power), E7 VCCIB0 (power), E16 VCCIB1 (power), E20 VCCIB2 (power), F7 VCCPLA (power), F8 VCCIB0 (power) "Quiet supply voltage to the input buffers of bank 0.", F11 VCCIB0 (power), F12 VCCIB1 (power), F15 VCCIB1 (power) "Quiet supply voltage to the input buffers of bank 1.", G5 VCCIB4 (power), G7 VCCIB4 (power) "Quiet supply voltage to the input buffers of bank 4.", G18 VCCIB2 (power), H3 VCCIB4 (power), H8 VCC (power), H9 VCCIB0 (power), H11 VCCIB0 (power), H12 VCCIB1 (power), H14 VCCIB1 (power), H20 VCCIB2 (power), J8 VCCIB4 (power), J10 VCC (power), J12 VCC (power), J14 VCC (power), J15 VCCIB2 (power), K9 VCC (power), K11 VCC (power), K13 VCC (power), L2 VCCOSC (power), L3 VCCIB4 (power), L6 VCCIB4 (power), L8 VCCIB4 (power), L10 VCC (power), L12 VCC (power), L14 VCC (power), L15 VCCIB2 (power), L17 VCCIB2 (power), L20 VCCIB2 (power), M3 VCCIB4 (power), M6 VCCIB4 (power), M8 VCCIB4 (power), M9 VCC (power), M11 VCC (power), M13 VCC (power), M15 VCCIB2 (power), M17 VCCIB2 (power), M20 VCCIB2 (power), N10 VCC (power), N12 VCC (power), N14 VCC (power), P8 VCCIB4 (power), P9 VCC (power), P11 VCC (power), P13 VCC (power), P15 VCCIB2 (power), R3 VCCIB4 (power), R9 VCC33A (power), R11 VCC33A (power), R13 VCC33A (power), R15 VCC (power), R20 VCCIB2 (power), T5 VCCIB4 (power), T18 VCCIB2 (power), U6 VCCNVM (power) "1.5V power supply used by the Fusion device's Flash memory block module(s).", U7 VCCIB4 (power), U8 VCC15A (power), U11 VCC33A (power), U16 VCCIB2 (power), V3 VCCIB4 (power), V7 VCC33PMP (power) "3.3V clean analog power supply input for use by the analog charge pump.", V9 VCC33A (power), V14 VCC33A (power), V16 VCC33A (power), V19 VJTAG (power), V20 VCCIB2 (power), W18 VCCIB2 (power) "Quiet supply voltage to the input buffers of bank 2.", Y7 VCC33A (power), Y10 VCC33A (power), Y13 VCC33A (power), Y16 VCC33A (power), Y21 VCCNVM (power) "1.5V power supply used by the Fusion device's Flash memory block module(s).", Y22 VPUMP (power)
part I pins: A1 GND (power), A22 GND (power), AA2 GND (power), AA7 GNDA (power), AA10 GNDA (power), AA13 GNDA (power), AA16 GNDA (power), AA21 GND (power), AB1 GND (power), AB4 GND (power), AB19 GND (power), AB22 GND (power), B2 GND (power), B4 GND (power), B7 GND (power), B10 GND (power), B13 GND (power), B16 GND (power), B19 GND (power), B21 GND (power), C19 VCOMPLB (power), D2 GND (power), D21 GND (power), E6 GND (power), E10 GND (power), E13 GND (power), E17 GND (power), F5 GND (power), F6 VCOMPLA (power), F18 GND (power), G2 GND (power), G8 GND (power), G15 GND (power), G21 GND (power), H7 GND (power), H10 GND (power), H13 GND (power), H15 GND (power), H16 GND (power), J9 GND (power), J11 GND (power), J13 GND (power), K2 GND (power), K5 GND (power), K8 GND (power), K10 GND (power), K12 GND (power), K14 GND (power), K15 GND (power), K18 GND (power), K21 GND (power), L9 GND (power), L11 GND (power), L13 GND (power), M4 GNDOSC (power) "Oscillator ground.", M10 GND (power), M12 GND (power), M14 GND (power), N2 GND (power), N5 GND (power), N8 GND (power), N9 GND (power), N11 GND (power), N13 GND (power), N15 GND (power), N18 GND (power), N21 GND (power), P10 GND (power), P12 GND (power), P14 GND (power), R7 GND (power), R8 GND (power), R10 GNDA (power), R12 GNDA (power), R14 GNDA (power), R16 GND (power), T2 GND (power), T7 GNDNVM (power) "Flash memory ground.", T8 GNDA (power), T15 GNDA (power), T21 GND (power), U5 GND (power), U9 GNDA (power), U12 GNDA (power), U14 GNDA (power), U18 GND (power), V6 GND (power), V17 GND (power), W2 GND (power), W7 GNDA (power), W10 GNDA (power), W13 GNDA (power), W16 GNDA (power), W21 GND (power), Y18 ADCGNDREF (power) "Analog ground reference used by the ADC.", Y20 GNDNVM (power) "Flash memory ground."
part J pins: AB3 NC, AB20 NC, C2 NC, C21 NC, D13 NC, D19 NC, E8 NC, E9 NC, E14 NC, E15 NC, E18 NC, F3 NC, F16 NC, F17 NC, G6 NC, G13 NC, G14 NC, G16 NC, G17 NC, H6 NC, H17 NC, J1 NC, J5 NC, J6 NC, J7 NC, J17 NC, J21 NC, K6 NC, K7 NC, K17 NC, K19 NC, M1 NC, N1 NC, N4 NC, N6 NC, N7 NC, N17 NC, P6 NC, P7 NC, P17 NC, R6 NC, R17 NC, T1 NC, T6 NC, T9 NC, T11 NC, T14 NC, T16 NC, T17 NC, U21 NC, V8 NC, V15 NC, W1 NC, W3 NC, W19 NC, W22 NC
part A text: BANK 0
part B text: BANK 1
part C text: BANK 2
part D text: BANK 4

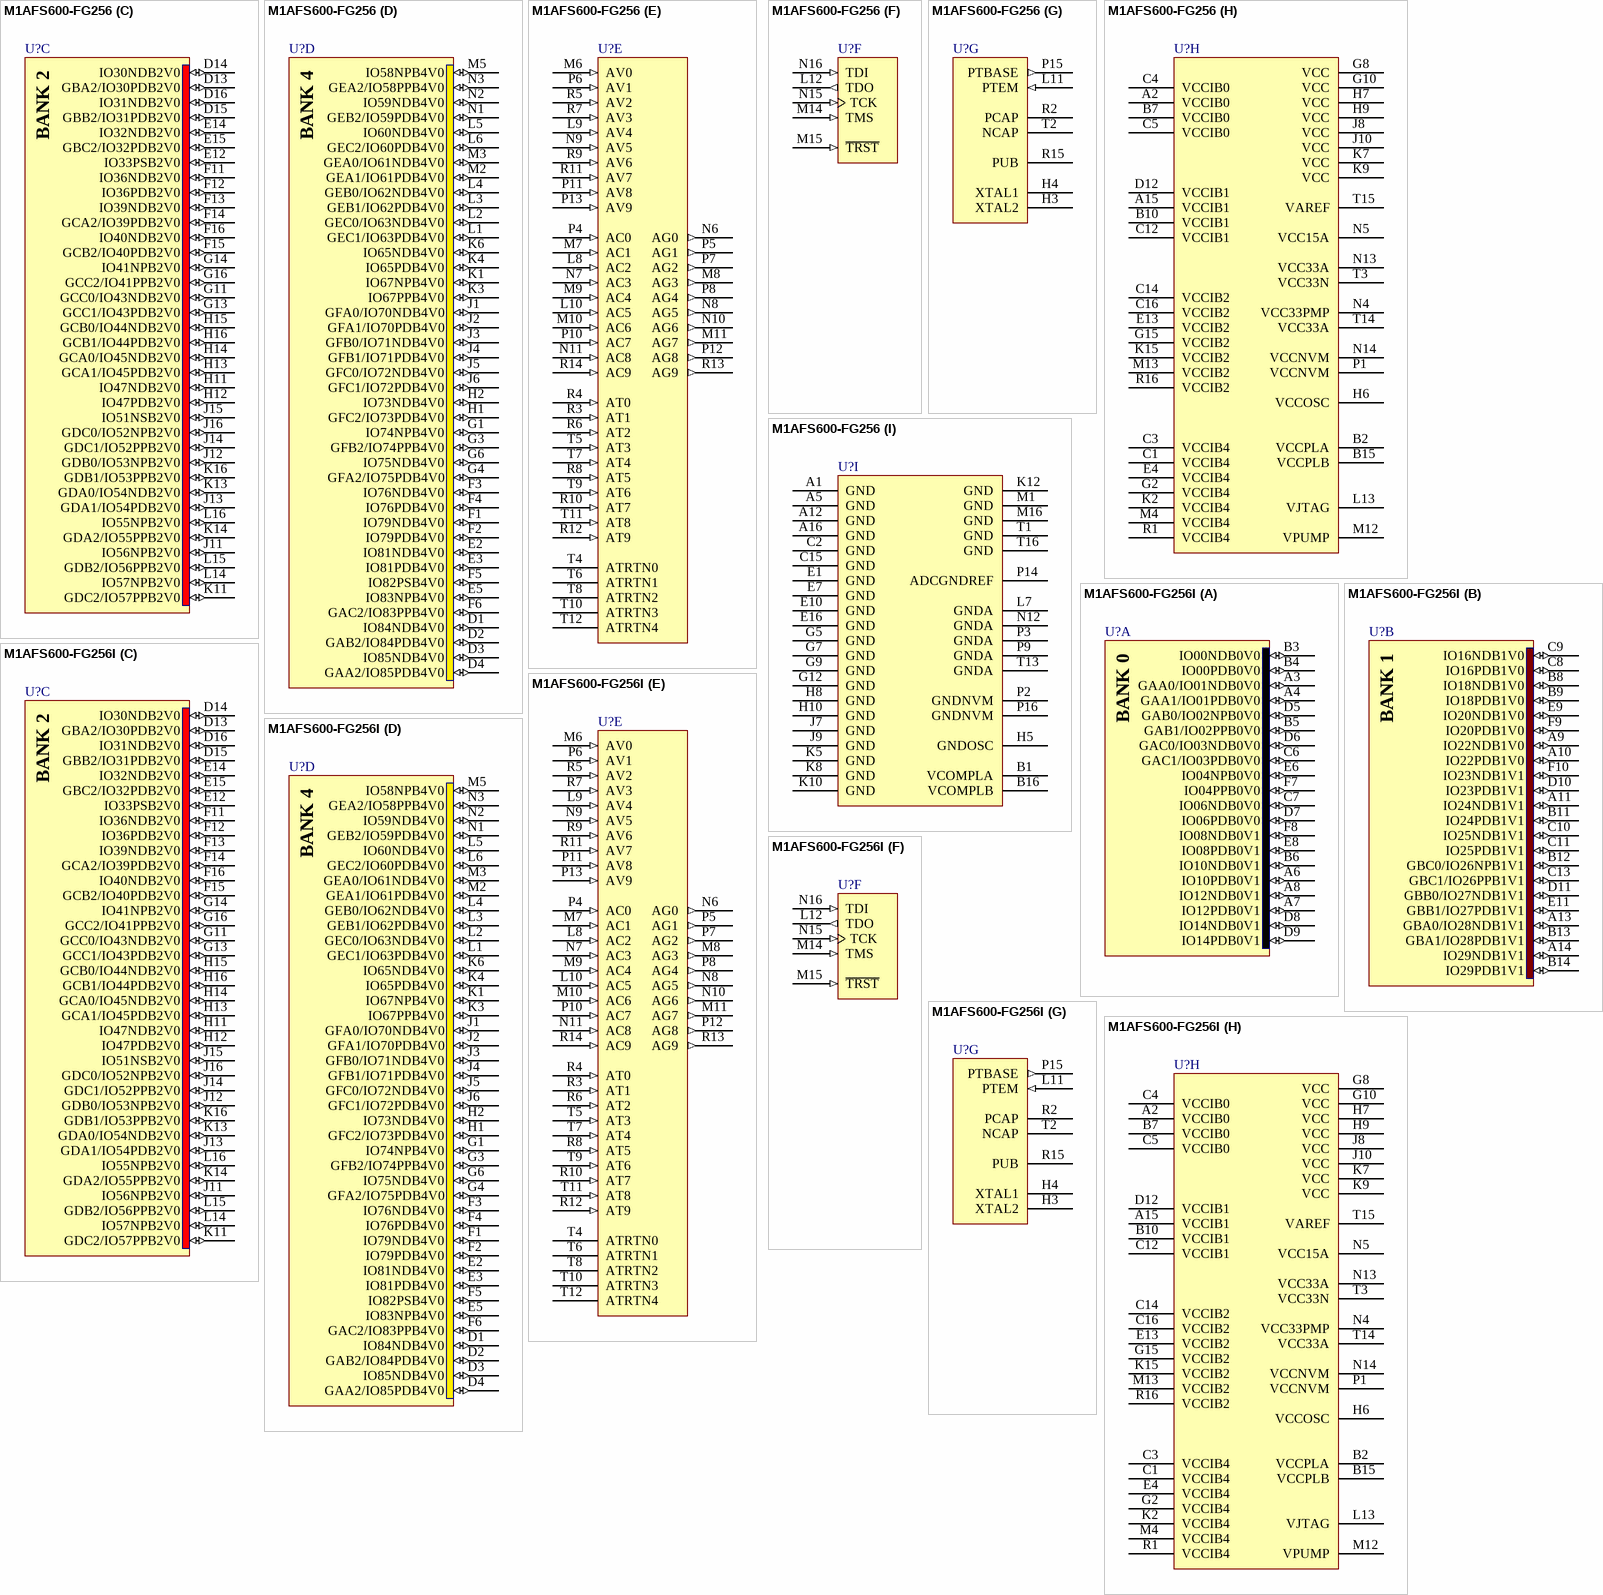
[diagram p195: symbols M1AFS600-FG256 to M1AFS600-FG256I]

## M1AFS600-FG256
designator U?
ARM-Enabled 3.3V Fusion Mixed Signal Flash FPGA, 600,000 System Gates, 256-Pin FBGA, Commercial Grade; Published: 17-Aug-2007; LatestRevisionDate: 14-Dec-2007; LatestRevisionNote: Pin T14 renamed to "VCC33A".; DatasheetVersion: ver1.7, Oct-2008; PackageVersion: v11.0, Feb-2009; PackageReference: FG256; Publisher: Altium Limited; PackageDescription: 256-Ball Fine Pitch Plastic Ball Grid Array (FG256); Code_JEDEC: MO-192-DAF-1; ComponentLink1Description: Manufacturer Link; ComponentLink1URL: http://www.actel.com/products/fusion/; ComponentLink2Description: Datasheet; ComponentLink2URL: http://www.actel.com/documents/Fusion_DS.pdf; ComponentLink3Description: Packaging Specification; ComponentLink3URL: http://www.actel.com/documents/PckgMechDrwngs.pdf
footprint FG256 (BGA, 256-Leads, Body 17x17mm, Pitch 1mm)
3D model M1AFS600-FG256 (256-Ball Fine Pitch Plastic Ball Grid Array (FG256))
signal-integrity model M7AFS600_FG256 (Fusion)
part A pins: A3 GAA0/IO01NDB0V0 (io), A4 GAA1/IO01PDB0V0 (io), A6 IO10PDB0V1 (io), A7 IO12PDB0V1 (io), A8 IO12NDB0V1 (io), B3 IO00NDB0V0 (io), B4 IO00PDB0V0 (io), B5 GAB1/IO02PPB0V0 (io), B6 IO10NDB0V1 (io), C6 GAC1/IO03PDB0V0 (io), C7 IO06NDB0V0 (io), D5 GAB0/IO02NPB0V0 (io), D6 GAC0/IO03NDB0V0 (io), D7 IO06PDB0V0 (io), D8 IO14NDB0V1 (io), D9 IO14PDB0V1 (io), E6 IO04NPB0V0 (io), E8 IO08PDB0V1 (io), F7 IO04PPB0V0 (io), F8 IO08NDB0V1 (io)
part B pins: A9 IO22NDB1V0 (io), A10 IO22PDB1V0 (io), A11 IO24NDB1V1 (io), A13 GBA0/IO28NDB1V1 (io), A14 IO29NDB1V1 (io), B8 IO18NDB1V0 (io), B9 IO18PDB1V0 (io), B11 IO24PDB1V1 (io), B12 GBC0/IO26NPB1V1 (io), B13 GBA1/IO28PDB1V1 (io), B14 IO29PDB1V1 (io), C8 IO16PDB1V0 (io), C9 IO16NDB1V0 (io), C10 IO25NDB1V1 (io), C11 IO25PDB1V1 (io), C13 GBC1/IO26PPB1V1 (io), D10 IO23PDB1V1 (io), D11 GBB0/IO27NDB1V1 (io), E9 IO20NDB1V0 (io), E11 GBB1/IO27PDB1V1 (io), F9 IO20PDB1V0 (io), F10 IO23NDB1V1 (io)
part C pins: D13 GBA2/IO30PDB2V0 (io), D14 IO30NDB2V0 (io), D15 GBB2/IO31PDB2V0 (io), D16 IO31NDB2V0 (io), E12 IO33PSB2V0 (io), E14 IO32NDB2V0 (io), E15 GBC2/IO32PDB2V0 (io), F11 IO36NDB2V0 (io), F12 IO36PDB2V0 (io), F13 IO39NDB2V0 (io), F14 GCA2/IO39PDB2V0 (io), F15 GCB2/IO40PDB2V0 (io), F16 IO40NDB2V0 (io), G11 GCC0/IO43NDB2V0 (io), G13 GCC1/IO43PDB2V0 (io), G14 IO41NPB2V0 (io), G16 GCC2/IO41PPB2V0 (io), H11 IO47NDB2V0 (io), H12 IO47PDB2V0 (io), H13 GCA1/IO45PDB2V0 (io), H14 GCA0/IO45NDB2V0 (io), H15 GCB0/IO44NDB2V0 (io), H16 GCB1/IO44PDB2V0 (io), J11 IO56NPB2V0 (io), J12 GDB0/IO53NPB2V0 (io), J13 GDA1/IO54PDB2V0 (io), J14 GDC1/IO52PPB2V0 (io), J15 IO51NSB2V0 (io), J16 GDC0/IO52NPB2V0 (io), K11 GDC2/IO57PPB2V0 (io), K13 GDA0/IO54NDB2V0 (io), K14 GDA2/IO55PPB2V0 (io), K16 GDB1/IO53PPB2V0 (io), L14 IO57NPB2V0 (io), L15 GDB2/IO56PPB2V0 (io), L16 IO55NPB2V0 (io)
part D pins: D1 IO84NDB4V0 (io), D2 GAB2/IO84PDB4V0 (io), D3 IO85NDB4V0 (io), D4 GAA2/IO85PDB4V0 (io), E2 IO81NDB4V0 (io), E3 IO81PDB4V0 (io), E5 IO83NPB4V0 (io), F1 IO79NDB4V0 (io), F2 IO79PDB4V0 (io), F3 IO76NDB4V0 (io), F4 IO76PDB4V0 (io), F5 IO82PSB4V0 (io), F6 GAC2/IO83PPB4V0 (io), G1 IO74NPB4V0 (io), G3 GFB2/IO74PPB4V0 (io), G4 GFA2/IO75PDB4V0 (io), G6 IO75NDB4V0 (io), H1 GFC2/IO73PDB4V0 (io), H2 IO73NDB4V0 (io), J1 GFA0/IO70NDB4V0 (io), J2 GFA1/IO70PDB4V0 (io), J3 GFB0/IO71NDB4V0 (io), J4 GFB1/IO71PDB4V0 (io), J5 GFC0/IO72NDB4V0 (io), J6 GFC1/IO72PDB4V0 (io), K1 IO67NPB4V0 (io), K3 IO67PPB4V0 (io), K4 IO65PDB4V0 (io), K6 IO65NDB4V0 (io), L1 GEC1/IO63PDB4V0 (io), L2 GEC0/IO63NDB4V0 (io), L3 GEB1/IO62PDB4V0 (io), L4 GEB0/IO62NDB4V0 (io), L5 IO60NDB4V0 (io), L6 GEC2/IO60PDB4V0 (io), M2 GEA1/IO61PDB4V0 (io), M3 GEA0/IO61NDB4V0 (io), M5 IO58NPB4V0 (io), N1 GEB2/IO59PDB4V0 (io), N2 IO59NDB4V0 (io), N3 GEA2/IO58PPB4V0 (io)
part E pins: L8 AC2 (in) "Analog current pad 2.", L9 AV4 (in) "Analog voltage pad 4.", L10 AC5 (in) "Analog current pad 5.", M6 AV0 (in) "Analog voltage pad 0.", M7 AC1 (in) "Analog current pad 1.", M8 AG3 (out) "Analog gate driver pad 3.", M9 AC4 (in) "Analog current pad 4.", M10 AC6 (in) "Analog current pad 6.", M11 AG7 (out) "Analog gate driver pad 7.", N6 AG0 (out) "Analog gate driver pad 0.", N7 AC3 (in) "Analog current pad 3.", N8 AG5 (out) "Analog gate driver pad 5.", N9 AV5 (in) "Analog voltage pad 5.", N10 AG6 (out) "Analog gate driver pad 6.", N11 AC8 (in) "Analog current pad 8.", P4 AC0 (in) "Analog current pad 0.", P5 AG1 (out) "Analog gate driver pad 1.", P6 AV1 (in) "Analog voltage pad 1.", P7 AG2 (out) "Analog gate driver pad 2.", P8 AG4 (out) "Analog gate driver pad 4.", P10 AC7 (in) "Analog current pad 7.", P11 AV8 (in) "Analog voltage pad 8.", P12 AG8 (out) "Analog gate driver pad 8.", P13 AV9 (in) "Analog voltage pad 9.", R3 AT1 (in) "Analog temperature pad 1.", R4 AT0 (in) "Analog temperature pad 0.", R5 AV2 (in) "Analog voltage pad 2.", R6 AT2 (in) "Analog temperature pad 2.", R7 AV3 (in) "Analog voltage pad 3.", R8 AT5 (in) "Analog temperature pad 5.", R9 AV6 (in) "Analog voltage pad 6.", R10 AT7 (in) "Analog temperature pad 7.", R11 AV7 (in) "Analog voltage pad 7.", R12 AT9 (in) "Analog temperature pad 9.", R13 AG9 (out) "Analog gate driver pad 9.", R14 AC9 (in) "Analog current pad 9.", T4 ATRTN0 "Temperature monitor return 0.", T5 AT3 (in) "Analog temperature pad 3.", T6 ATRTN1 "Temperature monitor return 1.", T7 AT4 (in) "Analog temperature pad 4.", T8 ATRTN2 "Temperature monitor return 2.", T9 AT6 (in) "Analog temperature pad 6.", T10 ATRTN3 "Temperature monitor return 3.", T11 AT8 (in) "Analog temperature pad 8.", T12 ATRTN4 "Temperature monitor return 4."
part F pins: L12 TDO (out), M14 TMS (in), M15 ~{TRST} (in), N15 TCK (in), N16 TDI (in)
part G pins: H3 XTAL2 "Input to crystal oscillator - If using external RC network or clock input, XTAL1 should be used and XTAL2 left unconnected.", H4 XTAL1 "Input to crystal oscillator - If using external RC network or clock input, XTAL1 should be used and XTAL2 left unconnected.", L11 PTEM (in) "PASS TRANSISTOR EMITTER - The feedback input of the voltage regulator.", P15 PTBASE (out) "PASS TRANSISTOR BASE - The control signal of the voltage regulator.", R2 PCAP "POSITIVE CAPACITOR - where the positive terminal of the charge pump capacitor is connected.", R15 PUB "Power up bar - for the external momentary switch which turns on the 1.5V regulator.", T2 NCAP "NEGATIVE CAPACITOR - where the negative terminal of the charge pump capacitor is connected."
part H pins: A2 VCCIB0 (power), A15 VCCIB1 (power), B2 VCCPLA (power), B7 VCCIB0 (power), B10 VCCIB1 (power), B15 VCCPLB (power), C1 VCCIB4 (power), C3 VCCIB4 (power) "Quiet supply voltage to the input buffers of bank 4.", C4 VCCIB0 (power) "Quiet supply voltage to the input buffers of bank 0.", C5 VCCIB0 (power), C12 VCCIB1 (power), C14 VCCIB2 (power) "Quiet supply voltage to the input buffers of bank 2.", C16 VCCIB2 (power), D12 VCCIB1 (power) "Quiet supply voltage to the input buffers of bank 1.", E4 VCCIB4 (power), E13 VCCIB2 (power), G2 VCCIB4 (power), G8 VCC (power), G10 VCC (power), G15 VCCIB2 (power), H6 VCCOSC (power), H7 VCC (power), H9 VCC (power), J8 VCC (power), J10 VCC (power), K2 VCCIB4 (power), K7 VCC (power), K9 VCC (power), K15 VCCIB2 (power), L13 VJTAG (power), M4 VCCIB4 (power), M12 VPUMP (power), M13 VCCIB2 (power), N4 VCC33PMP (power) "3.3V clean analog power supply input for use by the analog charge pump.", N5 VCC15A (power), N13 VCC33A (power), N14 VCCNVM (power) "1.5V power supply used by the Fusion device's Flash memory block module(s).", P1 VCCNVM (power) "1.5V power supply used by the Fusion device's Flash memory block module(s).", R1 VCCIB4 (power), R16 VCCIB2 (power), T3 VCC33N (power) "-3.3V output from the voltage converter. A 2.2µF capacitor must be connected from this pin to ground.", T14 VCC33A (power) "Analog power pin for the analog power supply low pass filter. An external 1µF capacitor should be connected between this pin and ground.", T15 VAREF (power) "Analog reference voltage to be used by analog to digital converter."
part I pins: A1 GND (power), A5 GND (power), A12 GND (power), A16 GND (power), B1 VCOMPLA (power), B16 VCOMPLB (power), C2 GND (power), C15 GND (power), E1 GND (power), E7 GND (power), E10 GND (power), E16 GND (power), G5 GND (power), G7 GND (power), G9 GND (power), G12 GND (power), H5 GNDOSC (power) "Oscillator ground.", H8 GND (power), H10 GND (power), J7 GND (power), J9 GND (power), K5 GND (power), K8 GND (power), K10 GND (power), K12 GND (power), L7 GNDA (power), M1 GND (power), M16 GND (power), N12 GNDA (power), P2 GNDNVM (power) "Flash memory ground.", P3 GNDA (power), P9 GNDA (power), P14 ADCGNDREF (power) "Analog ground reference used by the ADC.", P16 GNDNVM (power) "Flash memory ground.", T1 GND (power), T13 GNDA (power), T16 GND (power)
part A text: BANK 0
part B text: BANK 1
part C text: BANK 2
part D text: BANK 4

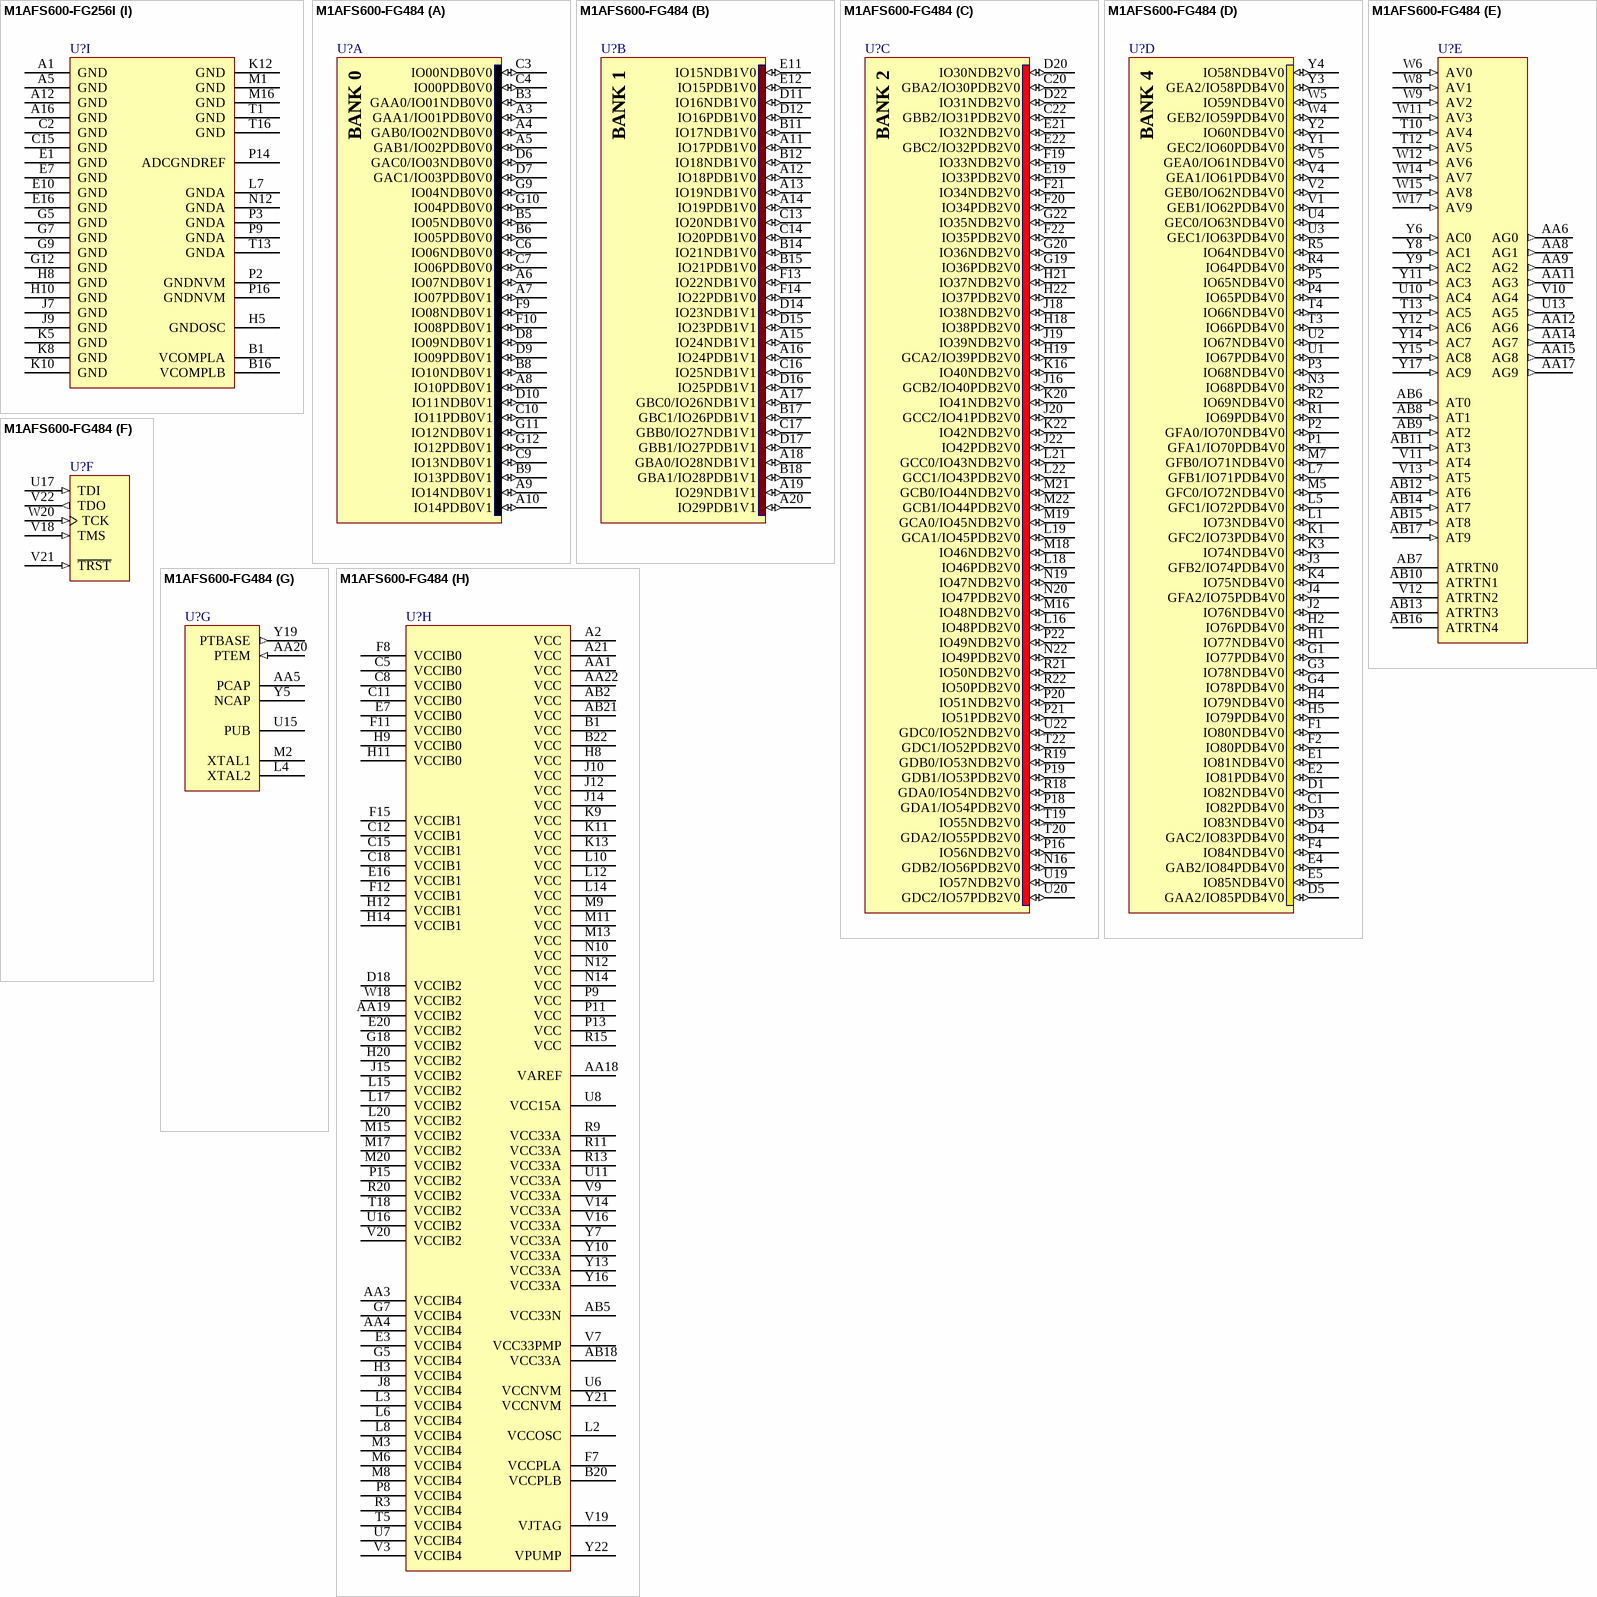
[diagram p196: symbols M1AFS600-FG256I to M1AFS600-FG484]